# EAGLE library part ADS1210 (library burr-brown)
24-Bit Analog-to-Digital Converter
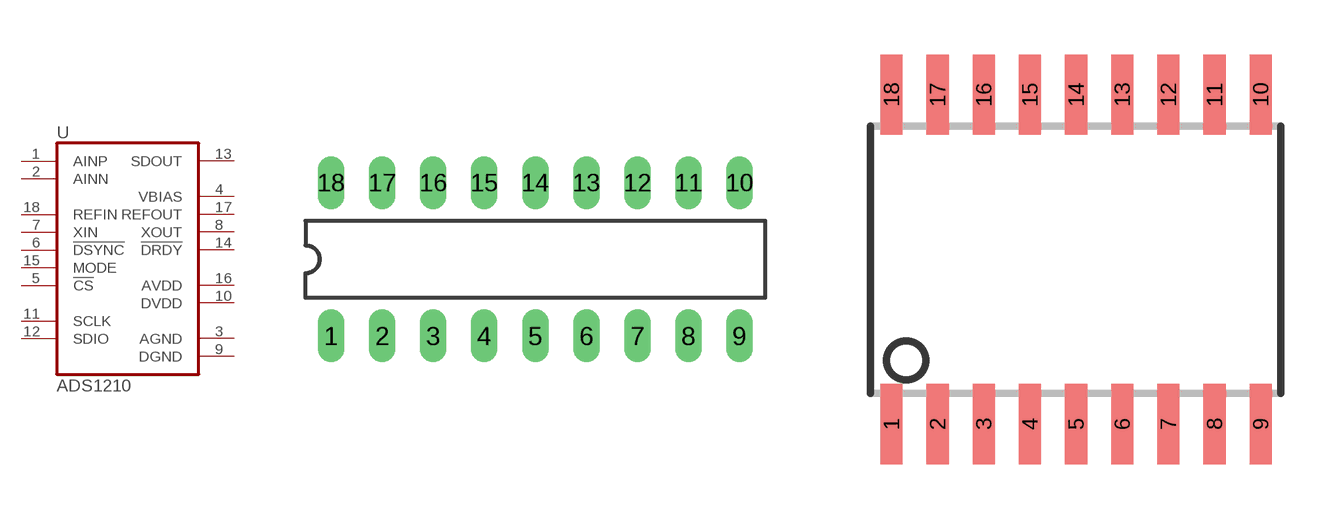
[diagram p40: symbol with the pads of DIL18; footprints DIL18, SO18L]

Designator prefix U

## ADS1210P  [DIL18]
1  AINP  in
2  AINN  in
3  AGND  pwr
4  VBIAS  out
5  !CS  in
6  !DSYNC  in
7  XIN  in
8  XOUT  out
9  DGND  pwr
10  DVDD  pwr
11  SCLK
12  SDIO
13  SDOUT  out
14  !DRDY  out
15  MODE  in
16  AVDD  pwr
17  REFOUT  out
18  REFIN  in

## ADS1210U  [SO18L]
Pads as for DIL18

## Footprint DIL18 (pad centres in mm)
Dual In Line Package
drill 0.813 long: 1 -10.16,-3.81; 2 -7.62,-3.81; 3 -5.08,-3.81; 4 -2.54,-3.81; 5 0,-3.81; 6 2.54,-3.81; 7 5.08,-3.81; 8 7.62,-3.81; 9 10.16,-3.81; 10 10.16,3.81; 11 7.62,3.81; 12 5.08,3.81; 13 2.54,3.81; 14 0,3.81; 15 -2.54,3.81; 16 -5.08,3.81; 17 -7.62,3.81; 18 -10.16,3.81

## Footprint SO18L (pad centres in mm)
Small Outline Package, large
smd 0.61 x 2.21: 1 -5.08,-4.534; 2 -3.81,-4.534; 3 -2.54,-4.534; 4 -1.27,-4.534; 5 0,-4.534; 6 1.27,-4.534; 7 2.54,-4.534; 8 3.81,-4.534; 9 5.08,-4.534; 10 5.08,4.534; 11 3.81,4.534; 12 2.54,4.534; 13 1.27,4.534; 14 0,4.534; 15 -1.27,4.534; 16 -2.54,4.534; 17 -3.81,4.534; 18 -5.08,4.534